# Altium schematic symbol library RTC.SchLib: 1 symbol
Pins are listed as number, name and electrical type; pins without a type are passive.

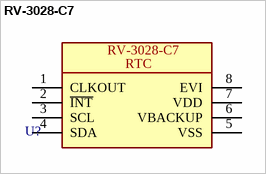
[diagram p0: symbol RV-3028-C7]

## RV-3028-C7
designator U?
IC RTC CLK/CALENDAR I2C 8SON; Manufacturer 1: Micro Crystal AG; Manufacturer Part Number 1: *; Value: *
footprint RV-3028-C7 (IC RTC CLK/CALENDAR I2C 8SON)
pins: 1 CLKOUT, 2 ~{INT}, 3 SCL, 4 SDA, 5 VSS, 6 VBACKUP, 7 VDD, 8 EVI
text: RTC